# EAGLE library part AD79*8 (library ic-AD)
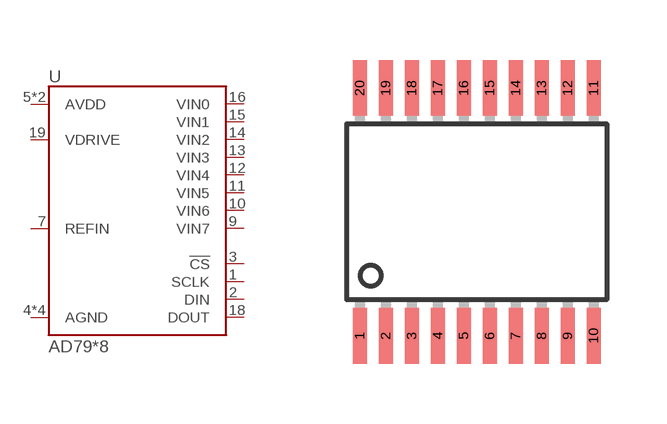
[diagram p2: symbol with the pads of TSSOP20; footprint TSSOP20]

Designator prefix U

## AD7908 (RESOLUTION: 8), AD7918 (RESOLUTION: 10), AD7928 (RESOLUTION: 12)  [TSSOP20]
1  SCLK
2  DIN
3  !CS
4  AGND
5  AVDD
6  AVDD
7  REFIN
8  AGND
9  VIN7
10  VIN6
11  VIN5
12  VIN4
13  VIN3
14  VIN2
15  VIN1
16  VIN0
17  AGND
18  DOUT
19  VDRIVE
20  AGND

## Footprint TSSOP20 (pad centres in mm)
smd 0.35 x 1.4: 1 -2.925,-3.1; 2 -2.275,-3.1; 3 -1.625,-3.1; 4 -0.975,-3.1; 5 -0.325,-3.1; 6 0.325,-3.1; 7 0.975,-3.1; 8 1.625,-3.1; 9 2.275,-3.1; 10 2.925,-3.1; 11 2.925,3.1; 12 2.275,3.1; 13 1.625,3.1; 14 0.975,3.1; 15 0.325,3.1; 16 -0.325,3.1; 17 -0.975,3.1; 18 -1.625,3.1; 19 -2.275,3.1; 20 -2.925,3.1